# EAGLE library part SPI (library SPI用PH7ピン)
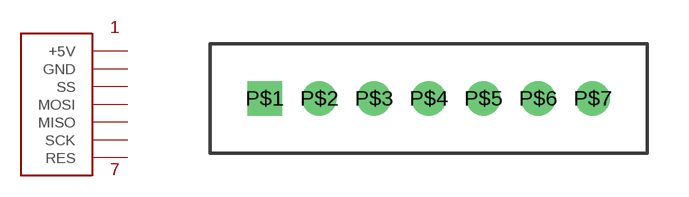
[diagram p0: symbol with the pads of SPI; footprint SPI]

Designator prefix -

## SPI  [SPI]
P$1  +5V
P$2  GND
P$3  SS
P$4  MOSI
P$5  MISO
P$6  SCK
P$7  RES

## Footprint SPI (pad centres in mm)
drill 0.75 square: P$1 0,0
drill 0.75: P$2 2,0; P$3 4,0; P$4 6,0; P$5 8,0; P$6 10,0; P$7 12,0